# Altium footprint library EC11E15244G1.PcbLib: 1 footprints
Each footprint in its own frame and in the unit in brackets; x right, y up, seen from the top. Pads: shape width x height; smd on the part's side, far side on the other; paste and mask are expansions set on the pad; w line width, h text height; cw(c..) or ccw(c..) is an arc to the next point about the centre after c.
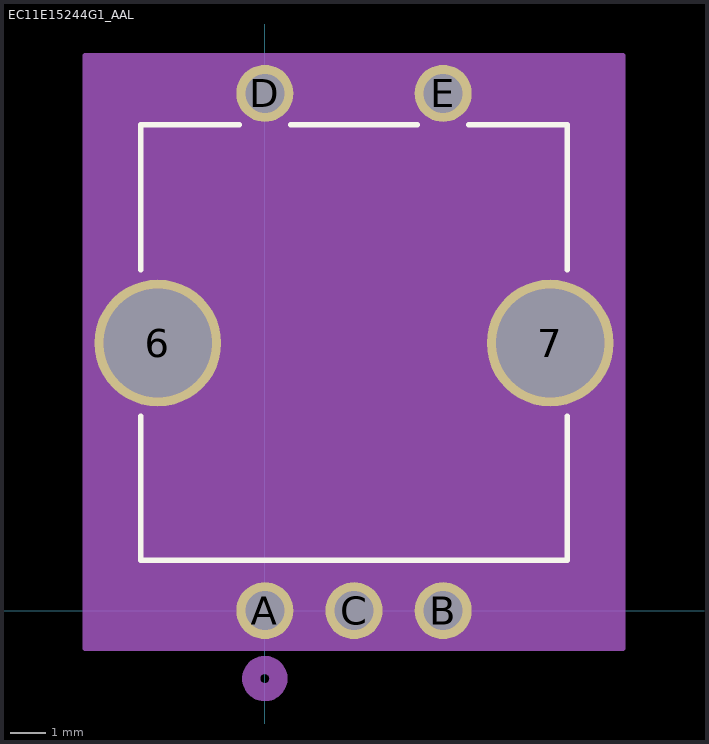
[diagram p0: the footprint, top view; thin cyan lines are the x and y axes]

## EC11E15244G1_AAL [mil]
pads (7):
  round 140 / inner round 60 / far side round 140 hole 120 paste-99999 mask-70: 6(-118.11,295.28) 7(314.96,295.28)
  round 63 / inner round 60 / far side round 63 hole 43 unplated: A(0,0) B(196.85,0) C(98.43,0) D(0,570.87) E(196.85,570.87)
Top Overlay:
  lines w6: -137.07,214.37 -137.07,55.5 333.93,55.5 333.93,214.37 ; -137.07,376.18 -137.07,536.5 -28.42,536.5 ; 28.42,536.5 168.43,536.5 ; 225.27,536.5 333.93,536.5 333.93,376.18
Mechanical 13:
  circle w20: c0,-75 r15
  lines w1: -132.07,60.5 -132.07,531.5 328.93,531.5 328.93,60.5 -132.07,60.5
Mechanical 15:
  region: 394.96,612.37 -198.11,612.37 -198.11,-41.5 394.96,-41.5
  lines w6: -198.11,-41.5 394.96,-41.5 394.96,612.37 -198.11,612.37 -198.11,-41.5
3D body "ec11e15244g1.stp": height 964.71, standoff -145.53, extent -159.46,-16.35 356.02,572.24